# Altium footprint library DF40C-80DP-0P4V51.PcbLib: 3 footprints
Each footprint in its own frame and in the unit in brackets; x right, y up, seen from the top. Pads: shape width x height; smd on the part's side, far side on the other; paste and mask are expansions set on the pad; w line width, h text height; cw(c..) or ccw(c..) is an arc to the next point about the centre after c.
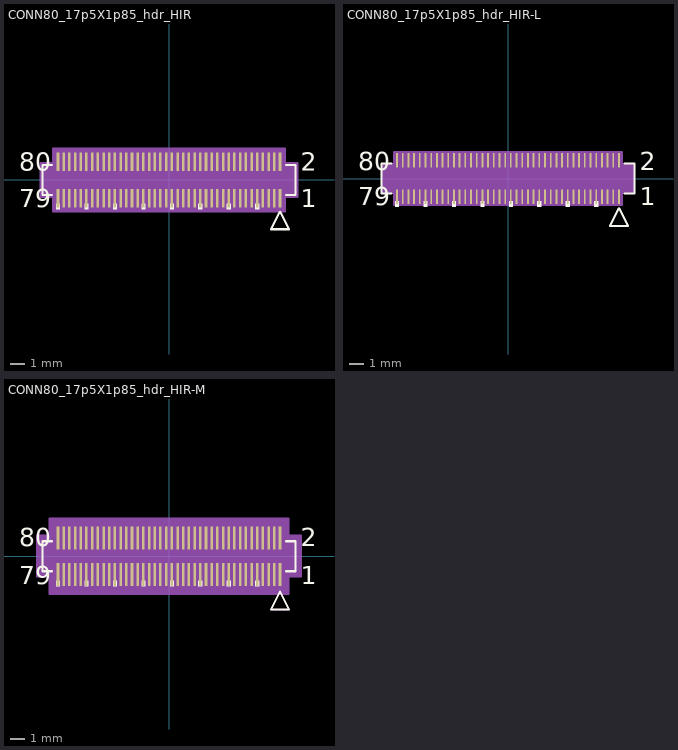
[diagram p0: the footprints below, top view; thin cyan lines are the x and y axes]

## CONN80_17p5X1p85_hdr_HIR [mil]
pads (80):
  rect 7x52 smd paste+0 mask+0: 1(307.09,-50.5) 2(307.09,50.5) 3(291.34,-50.5) 4(291.34,50.5) 5(275.59,-50.5) 6(275.59,50.5) 7(259.84,-50.5) 8(259.84,50.5) 9(244.09,-50.5) 10(244.09,50.5) 11(228.35,-50.5) 12(228.35,50.5) 13(212.6,-50.5) 14(212.6,50.5) 15(196.85,-50.5) 16(196.85,50.5) 17(181.1,-50.5) 18(181.1,50.5) 19(165.35,-50.5) 20(165.35,50.5) 21(149.61,-50.5) 22(149.61,50.5) 23(133.86,-50.5) 24(133.86,50.5) 25(118.11,-50.5) 26(118.11,50.5) 27(102.36,-50.5) 28(102.36,50.5) 29(86.61,-50.5) 30(86.61,50.5) 31(70.87,-50.5) 32(70.87,50.5) 33(55.12,-50.5) 34(55.12,50.5) 35(39.37,-50.5) 36(39.37,50.5) 37(23.62,-50.5) 38(23.62,50.5) 39(7.87,-50.5) 40(7.87,50.5) 41(-7.87,-50.5) 42(-7.87,50.5) 43(-23.62,-50.5) 44(-23.62,50.5) 45(-39.37,-50.5) 46(-39.37,50.5) 47(-55.12,-50.5) 48(-55.12,50.5) 49(-70.87,-50.5) 50(-70.87,50.5) 51(-86.61,-50.5) 52(-86.61,50.5) 53(-102.36,-50.5) 54(-102.36,50.5) 55(-118.11,-50.5) 56(-118.11,50.5) 57(-133.86,-50.5) 58(-133.86,50.5) 59(-149.61,-50.5) 60(-149.61,50.5) 61(-165.35,-50.5) 62(-165.35,50.5) 63(-181.1,-50.5) 64(-181.1,50.5) 65(-196.85,-50.5) 66(-196.85,50.5) 67(-212.6,-50.5) 68(-212.6,50.5) 69(-228.35,-50.5) 70(-228.35,50.5) 71(-244.09,-50.5) 72(-244.09,50.5) 73(-259.84,-50.5) 74(-259.84,50.5) 75(-275.59,-50.5) 76(-275.59,50.5) 77(-291.34,-50.5) 78(-291.34,50.5) 79(-307.09,-50.5) 80(-307.09,50.5)
Top Overlay:
  region: 249.09,-66.5 239.09,-66.5 239.09,-81.5 249.09,-81.5
  region: 170.35,-66.5 160.35,-66.5 160.35,-81.5 170.35,-81.5
  region: 91.61,-66.5 81.61,-66.5 81.61,-81.5 91.61,-81.5
  region: 12.87,-66.5 2.87,-66.5 2.87,-81.5 12.87,-81.5
  region: -65.87,-66.5 -75.87,-66.5 -75.87,-81.5 -65.87,-81.5
  region: -144.61,-66.5 -154.61,-66.5 -154.61,-81.5 -144.61,-81.5
  region: -223.35,-66.5 -233.35,-66.5 -233.35,-81.5 -223.35,-81.5
  region: -302.09,-66.5 -312.09,-66.5 -312.09,-81.5 -302.09,-81.5
  lines w6: -323.69,-41.5 -350,-41.5 -350,41.5 -323.69,41.5 ; 305.59,-89.6 282.09,-136.6 332.09,-136.6 308.59,-89.6 ; 323.69,-41.5 350,-41.5 350,41.5 323.69,41.5
  text "2" at 365,25.5 h50
  text "1" at 365,-75.5 h50
  text "80" at -415,25.5 h50
  text "79" at -415,-75.5 h50
Mechanical 13:
  lines w1: -345,-36.5 345,-36.5 345,36.5 -345,36.5 -345,-36.5 ; 282.09,-136.6 307.09,-86.6 332.09,-136.6 282.09,-136.6
  text "2" at 365,25.5 h50
  text "1" at 365,-75.5 h50
  text "80" at -415,25.5 h50
  text "79" at -415,-75.5 h50
Mechanical 15:
  region: -320.59,-46.5 -355,-46.5 -355,46.5 -320.59,46.5 -320.59,86.5 320.59,86.5 320.59,46.5 355,46.5 355,-46.5 320.59,-46.5 320.59,-86.5 -320.59,-86.5
  region: 345,-36.5 -345,-36.5 -345,36.5 345,36.5
  lines w6: -355,-46.5 -355,46.5 -320.59,46.5 -320.59,86.5 320.59,86.5 320.59,46.5 355,46.5 355,-46.5 320.59,-46.5 320.59,-86.5 -320.59,-86.5 -320.59,-46.5 -355,-46.5
3D body "CONN80_17p5X1p85_hdr_HIR.step": height 50.79, standoff 0, extent -314.96,-65.98 314.96,65.98

## CONN80_17p5X1p85_hdr_HIR-L [mil]
pads (80):
  rect 5x40 smd paste+0 mask+0: 1(307.09,-50.5) 2(307.09,50.5) 3(291.34,-50.5) 4(291.34,50.5) 5(275.59,-50.5) 6(275.59,50.5) 7(259.84,-50.5) 8(259.84,50.5) 9(244.09,-50.5) 10(244.09,50.5) 11(228.35,-50.5) 12(228.35,50.5) 13(212.6,-50.5) 14(212.6,50.5) 15(196.85,-50.5) 16(196.85,50.5) 17(181.1,-50.5) 18(181.1,50.5) 19(165.35,-50.5) 20(165.35,50.5) 21(149.61,-50.5) 22(149.61,50.5) 23(133.86,-50.5) 24(133.86,50.5) 25(118.11,-50.5) 26(118.11,50.5) 27(102.36,-50.5) 28(102.36,50.5) 29(86.61,-50.5) 30(86.61,50.5) 31(70.87,-50.5) 32(70.87,50.5) 33(55.12,-50.5) 34(55.12,50.5) 35(39.37,-50.5) 36(39.37,50.5) 37(23.62,-50.5) 38(23.62,50.5) 39(7.87,-50.5) 40(7.87,50.5) 41(-7.87,-50.5) 42(-7.87,50.5) 43(-23.62,-50.5) 44(-23.62,50.5) 45(-39.37,-50.5) 46(-39.37,50.5) 47(-55.12,-50.5) 48(-55.12,50.5) 49(-70.87,-50.5) 50(-70.87,50.5) 51(-86.61,-50.5) 52(-86.61,50.5) 53(-102.36,-50.5) 54(-102.36,50.5) 55(-118.11,-50.5) 56(-118.11,50.5) 57(-133.86,-50.5) 58(-133.86,50.5) 59(-149.61,-50.5) 60(-149.61,50.5) 61(-165.35,-50.5) 62(-165.35,50.5) 63(-181.1,-50.5) 64(-181.1,50.5) 65(-196.85,-50.5) 66(-196.85,50.5) 67(-212.6,-50.5) 68(-212.6,50.5) 69(-228.35,-50.5) 70(-228.35,50.5) 71(-244.09,-50.5) 72(-244.09,50.5) 73(-259.84,-50.5) 74(-259.84,50.5) 75(-275.59,-50.5) 76(-275.59,50.5) 77(-291.34,-50.5) 78(-291.34,50.5) 79(-307.09,-50.5) 80(-307.09,50.5)
Top Overlay:
  region: 249.09,-63.5 239.09,-63.5 239.09,-78.5 249.09,-78.5
  region: 170.35,-63.5 160.35,-63.5 160.35,-78.5 170.35,-78.5
  region: 91.61,-63.5 81.61,-63.5 81.61,-78.5 91.61,-78.5
  region: 12.87,-63.5 2.87,-63.5 2.87,-78.5 12.87,-78.5
  region: -65.87,-63.5 -75.87,-63.5 -75.87,-78.5 -65.87,-78.5
  region: -144.61,-63.5 -154.61,-63.5 -154.61,-78.5 -144.61,-78.5
  region: -223.35,-63.5 -233.35,-63.5 -233.35,-78.5 -223.35,-78.5
  region: -302.09,-63.5 -312.09,-63.5 -312.09,-78.5 -302.09,-78.5
  lines w6: -322.69,-41.5 -350,-41.5 -350,41.5 -322.69,41.5 ; 306.09,-83.6 282.09,-131.6 332.09,-131.6 308.09,-83.6 ; 322.69,-41.5 350,-41.5 350,41.5 322.69,41.5
  text "2" at 365,23.5 h50
  text "1" at 365,-73.5 h50
  text "80" at -415,23.5 h50
  text "79" at -415,-73.5 h50
Mechanical 13:
  lines w1: -345,-36.5 345,-36.5 345,36.5 -345,36.5 -345,-36.5 ; 282.09,-131.6 307.09,-81.6 332.09,-131.6 282.09,-131.6
  text "2" at 365,23.5 h50
  text "1" at 365,-73.5 h50
  text "80" at -415,23.5 h50
  text "79" at -415,-73.5 h50
Mechanical 15:
  region: -314.59,-40.5 -349,-40.5 -349,40.5 -314.59,40.5 -314.59,72.5 314.59,72.5 314.59,40.5 349,40.5 349,-40.5 314.59,-40.5 314.59,-72.5 -314.59,-72.5
  region: 345,-36.5 -345,-36.5 -345,36.5 345,36.5
  lines w6: -349,-40.5 -349,40.5 -314.59,40.5 -314.59,72.5 314.59,72.5 314.59,40.5 349,40.5 349,-40.5 314.59,-40.5 314.59,-72.5 -314.59,-72.5 -314.59,-40.5 -349,-40.5
3D body "CONN80_17p5X1p85_hdr_HIR.step": height 50.79, standoff 0, extent -314.96,-65.98 314.96,65.98

## CONN80_17p5X1p85_hdr_HIR-M [mil]
pads (80):
  rect 7x64 smd paste+0 mask+0: 1(307.09,-50.5) 2(307.09,50.5) 3(291.34,-50.5) 4(291.34,50.5) 5(275.59,-50.5) 6(275.59,50.5) 7(259.84,-50.5) 8(259.84,50.5) 9(244.09,-50.5) 10(244.09,50.5) 11(228.35,-50.5) 12(228.35,50.5) 13(212.6,-50.5) 14(212.6,50.5) 15(196.85,-50.5) 16(196.85,50.5) 17(181.1,-50.5) 18(181.1,50.5) 19(165.35,-50.5) 20(165.35,50.5) 21(149.61,-50.5) 22(149.61,50.5) 23(133.86,-50.5) 24(133.86,50.5) 25(118.11,-50.5) 26(118.11,50.5) 27(102.36,-50.5) 28(102.36,50.5) 29(86.61,-50.5) 30(86.61,50.5) 31(70.87,-50.5) 32(70.87,50.5) 33(55.12,-50.5) 34(55.12,50.5) 35(39.37,-50.5) 36(39.37,50.5) 37(23.62,-50.5) 38(23.62,50.5) 39(7.87,-50.5) 40(7.87,50.5) 41(-7.87,-50.5) 42(-7.87,50.5) 43(-23.62,-50.5) 44(-23.62,50.5) 45(-39.37,-50.5) 46(-39.37,50.5) 47(-55.12,-50.5) 48(-55.12,50.5) 49(-70.87,-50.5) 50(-70.87,50.5) 51(-86.61,-50.5) 52(-86.61,50.5) 53(-102.36,-50.5) 54(-102.36,50.5) 55(-118.11,-50.5) 56(-118.11,50.5) 57(-133.86,-50.5) 58(-133.86,50.5) 59(-149.61,-50.5) 60(-149.61,50.5) 61(-165.35,-50.5) 62(-165.35,50.5) 63(-181.1,-50.5) 64(-181.1,50.5) 65(-196.85,-50.5) 66(-196.85,50.5) 67(-212.6,-50.5) 68(-212.6,50.5) 69(-228.35,-50.5) 70(-228.35,50.5) 71(-244.09,-50.5) 72(-244.09,50.5) 73(-259.84,-50.5) 74(-259.84,50.5) 75(-275.59,-50.5) 76(-275.59,50.5) 77(-291.34,-50.5) 78(-291.34,50.5) 79(-307.09,-50.5) 80(-307.09,50.5)
Top Overlay:
  region: 249.09,-68.5 239.09,-68.5 239.09,-83.5 249.09,-83.5
  region: 170.35,-68.5 160.35,-68.5 160.35,-83.5 170.35,-83.5
  region: 91.61,-68.5 81.61,-68.5 81.61,-83.5 91.61,-83.5
  region: 12.87,-68.5 2.87,-68.5 2.87,-83.5 12.87,-83.5
  region: -65.87,-68.5 -75.87,-68.5 -75.87,-83.5 -65.87,-83.5
  region: -144.61,-68.5 -154.61,-68.5 -154.61,-83.5 -144.61,-83.5
  region: -223.35,-68.5 -233.35,-68.5 -233.35,-83.5 -223.35,-83.5
  region: -302.09,-68.5 -312.09,-68.5 -312.09,-83.5 -302.09,-83.5
  lines w6: -323.69,-41.5 -350,-41.5 -350,41.5 -323.69,41.5 ; 323.69,-41.5 350,-41.5 350,41.5 323.69,41.5 ; 282.09,-147.6 307.09,-97.6 332.09,-147.6 282.09,-147.6
  text "2" at 365,27.5 h50
  text "1" at 365,-77.5 h50
  text "80" at -415,27.5 h50
  text "79" at -415,-77.5 h50
Mechanical 13:
  lines w1: -345,-36.5 345,-36.5 345,36.5 -345,36.5 -345,-36.5 ; 282.09,-147.6 307.09,-97.6 332.09,-147.6 282.09,-147.6
  text "2" at 365,27.5 h50
  text "1" at 365,-77.5 h50
  text "80" at -415,27.5 h50
  text "79" at -415,-77.5 h50
Mechanical 15:
  region: -330.59,-56.5 -365,-56.5 -365,56.5 -330.59,56.5 -330.59,104.5 330.59,104.5 330.59,56.5 365,56.5 365,-56.5 330.59,-56.5 330.59,-104.5 -330.59,-104.5
  region: 345,-36.5 -345,-36.5 -345,36.5 345,36.5
  lines w6: -365,-56.5 -365,56.5 -330.59,56.5 -330.59,104.5 330.59,104.5 330.59,56.5 365,56.5 365,-56.5 330.59,-56.5 330.59,-104.5 -330.59,-104.5 -330.59,-56.5 -365,-56.5
3D body "CONN80_17p5X1p85_hdr_HIR.step": height 50.79, standoff 0, extent -314.96,-65.98 314.96,65.98